# EAGLE library part MS5611-01BA03 (library Lysenko_Eagle_Lib)
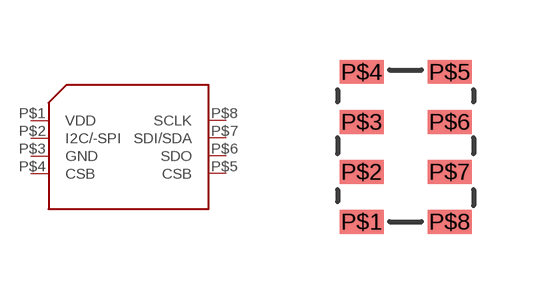
[diagram p33: symbol with the pads of MS5611; footprint MS5611]

Designator prefix -

## MS5611-01BA03  [MS5611]
P$1  VDD
P$2  I2C/-SPI
P$3  GND
P$4  CSB
P$5  CSB
P$6  SDO
P$7  SDI/SDA
P$8  SCLK

## Footprint MS5611 (pad centres in mm)
smd 1.1 x 0.6: P$1 0,0; P$2 0,1.25; P$3 0,2.5; P$4 0,3.75; P$5 2.2,3.75; P$6 2.2,2.5; P$7 2.2,1.25; P$8 2.2,0